# Altium integrated library LTC2990IMS_PBF.IntLib: 1 symbol
Pins are listed as number, name and electrical type; pins without a type are passive.

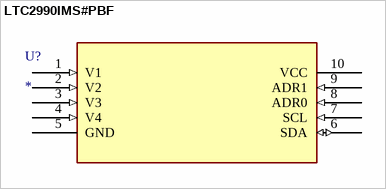
[diagram p0: symbol LTC2990IMS#PBF]

## LTC2990IMS#PBF
designator U?
Quad I2C Voltage, Current and Temperature Monitor; MF: Analog Devices; MP: LTC2990IMS#PBF; Package: MSOP-10 Analog Devices; Price: None; Check_prices: https://www.snapeda.com/parts/LTC2990IMS%23PBF/Analog+Devices/view-part/?ref=eda; Value: *; SnapEDA_Link: https://www.snapeda.com/parts/LTC2990IMS%23PBF/Analog+Devices/view-part/?ref=snap; Availability: In Stock; Purchase-URL: https://pricing.snapeda.com/search?q=LTC2990IMS#PBF&ref=eda
footprint MSOP-10_MS
pins: 1 V1 (in), 2 V2 (in), 3 V3 (in), 4 V4 (in), 5 GND (power), 6 SDA (io), 7 SCL (in), 8 ADR0 (in), 9 ADR1 (in), 10 VCC (power)